# EAGLE library part EN3_PCB_8 (library formula electric)
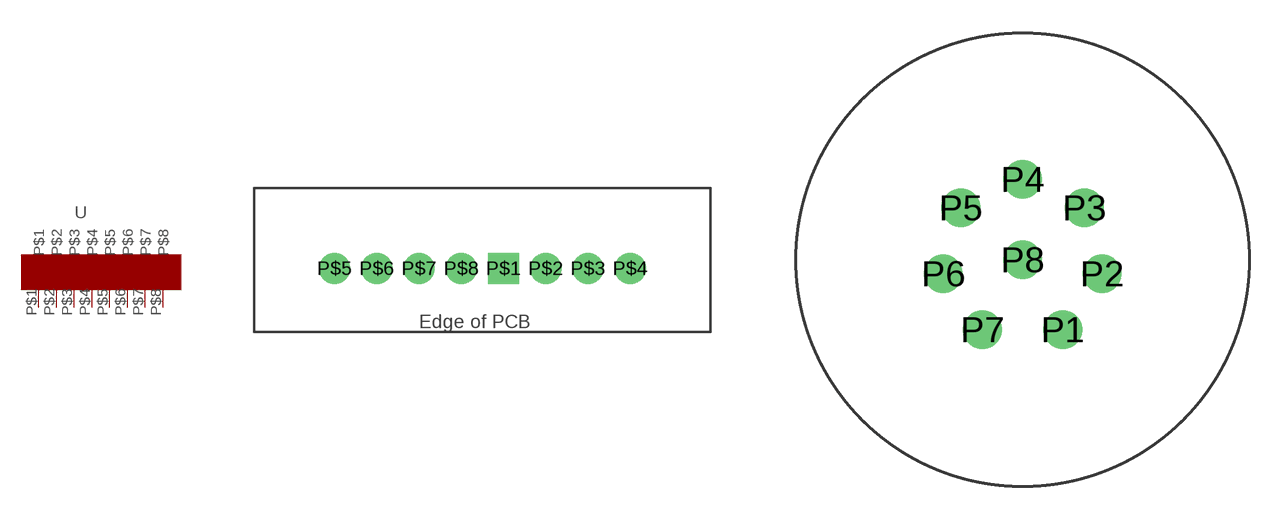
[diagram p4: symbol with the pads of EN3_PCB_8; footprints EN3_PCB_8, EN3P8MPX]

Designator prefix -

## EN3_PCB_8RIGHT_ANGLE  [EN3_PCB_8]
P$1  P$1
P$2  P$2
P$3  P$3
P$4  P$4
P$5  P$5
P$6  P$6
P$7  P$7
P$8  P$8

## EN3_PCB_8STRAIGHT  [EN3P8MPX]
P1  P$1
P2  P$2
P3  P$3
P4  P$4
P5  P$5
P6  P$6
P7  P$7
P8  P$8

## Footprint EN3_PCB_8 (pad centres in mm)
drill 0.965 pad 1.397 square: P$1 0,0
drill 0.965 pad 1.397: P$2 2,0; P$3 4,0; P$4 6,0; P$5 -8,0; P$6 -6,0; P$7 -4,0; P$8 -2,0

## Footprint EN3P8MPX (pad centres in mm)
drill 1.168: P1 1.829,-3.175; P2 3.607,-0.635; P3 2.807,2.362; P4 0,3.658; P5 -2.807,2.362; P6 -3.607,-0.635; P7 -1.829,-3.175; P8 0,0